# Altium footprint library tcrt_pcb.PcbLib: 2 footprints
Each footprint in its own frame and in the unit in brackets; x right, y up, seen from the top. Pads: shape width x height; smd on the part's side, far side on the other; paste and mask are expansions set on the pad; w line width, h text height; cw(c..) or ccw(c..) is an arc to the next point about the centre after c.
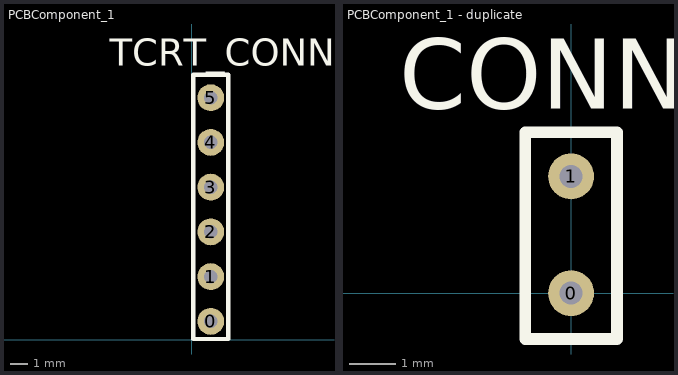
[diagram p0: the footprints below, top view; thin cyan lines are the x and y axes]

## PCBComponent_1 [mil]
pads (6):
  round 60 hole 30: 0(42.48,41.34) 1(42.48,141.34) 2(42.48,241.34) 3(42.48,341.34) 4(42.48,441.34) 5(42.48,541.34)
Top Overlay:
  lines w10: 3.11,1.97 3.11,592.52 81.85,592.52 81.85,1.97 3.11,1.97
  text "TCRT_CONN" at -183.74,612.52 h60

## PCBComponent_1 - duplicate [mm]
pads (2):
  round 1 hole 0.5: 0(0,0) 1(0,2.54)
Top Overlay:
  lines w0.254: -1,-1 1,-1 1,3.5 -1,3.5 -1,-1
  text "CONN_2" at -3.746,4.008 h1.52